# Altium schematic symbol library LED Schematics.SchLib: 11 symbols
Pins are listed as number, name and electrical type; pins without a type are passive.

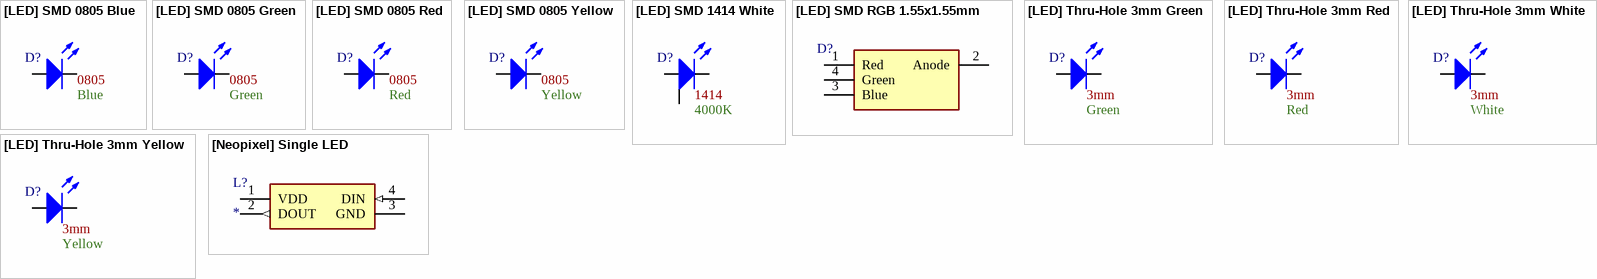
[diagram p0: symbols [LED] SMD 0805 Blue to [Neopixel] Single LED]

## [LED] SMD 0805 Blue
designator D?  Color: Blue  Size Package: 0805
150080BS75000; Supplier 1: DigiKey; Supplier Part Number 1: 732-4982-1-ND
footprint [LED] SMD 0805
pins: 1 Anode, 2 Cathode

## [LED] SMD 0805 Green
designator D?  Color: Green  Size Package: 0805
LG R971-KN-1-0-20-R18; Supplier 1: DigiKey; Supplier Part Number 1: 475-LGR971-KN-1CT-ND
footprint [LED] SMD 0805
pins: 1 Anode, 2 Cathode

## [LED] SMD 0805 Red
designator D?  Color: Red  Size Package: 0805
LS R976-NR-1-0-20-R18; Supplier 1: DigiKey; Supplier Part Number 1: 475-LSR976-NR-1CT-ND
footprint [LED] SMD 0805
pins: 1 Anode, 2 Cathode

## [LED] SMD 0805 Yellow
designator D?  Color: Yellow  Size Package: 0805
LY R976-PS-36-0-20-R18; Supplier 1: DigiKey; Supplier Part Number 1: 475-LYR976-PS-36-0-20-R18CT-ND
footprint [LED] SMD 0805
pins: 1 Anode, 2 Cathode

## [LED] SMD 1414 White
designator D?  Color Temperature: 4000K  Size: 1414  (hidden comment: *)
XPEBWT-H1-0000-00CZ5; Supplier 1: DigiKey; Supplier Part Number 1: XPEBWT-H1-0000-00CZ5DKR-ND
footprint [LED] SMD 1414
pins: 1 Anode, 2 Cathode, 3 Thermal Pad

## [LED] SMD RGB 1.55x1.55mm
designator D?  (value not drawn)
LTST-E143EGBW-P1; Supplier 1: DigiKey; Supplier Part Number 1: 160-LTST-E143EGBW-P1CT-ND
footprint [LED] SMD RGB 1.55x1.55mm (LTST-E143EGBW-P1)
pins: 1 Red, 2 Anode, 3 Blue, 4 Green

## [LED] Thru-Hole 3mm Green
designator D?  Color: Green  Lens Diameter: 3mm  (hidden comment: *)
151031VS06000; Supplier 1: DigiKey; Supplier Part Number 1: 732-5008-ND
footprint [LED] Thru-Hole 3mm Green
pins: 1 Anode, 2 Cathode

## [LED] Thru-Hole 3mm Red
designator D?  Color: Red  Lens Diameter: 3mm  (hidden comment: *)
151031SS06000; Supplier 1: DigiKey; Supplier Part Number 1: 732-5006-ND
footprint [LED] Thru-Hole 3mm Red
pins: 1 Anode, 2 Cathode

## [LED] Thru-Hole 3mm White
designator D?  Color: White  Lens Diameter: 3mm  (hidden comment: *)
151031VS06000; Supplier 1: DigiKey; Supplier Part Number 1: 1516-QBL7IW60D-WW-ND
footprint [LED] Thru-Hole 3mm White
pins: 1 Anode, 2 Cathode

## [LED] Thru-Hole 3mm Yellow
designator D?  Color: Yellow  Lens Diameter: 3mm  (hidden comment: *)
151031YS05900; Supplier 1: DigiKey; Supplier Part Number 1: 732-5009-ND
footprint [LED] Thru-Hole 3mm Yellow
pins: 1 Anode, 2 Cathode

## [Neopixel] Single LED
designator L?
WS2812B; Supplier 1: DigiKey; Supplier Part Number 1: 1568-16347CT-ND
footprint [Neopixel] Single LED (WS2812B)
pins: 1 VDD (power), 2 DOUT (out), 3 GND (power), 4 DIN (in)